# Altium schematic symbol library SCH - RF - CONNECTOR - RF CONNECTOR - COAX AS TEST POINT.SCHLIB: 1 symbol
Pins are listed as number, name and electrical type; pins without a type are passive.

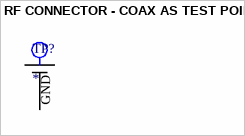
[diagram p0: symbol RF CONNECTOR - COAX AS TEST POINT]

## RF CONNECTOR - COAX AS TEST POINT
designator TP?
pins: G GND, S, S